# Altium footprint library 8A34002E-000NLG.PcbLib: 3 footprints
Each footprint in its own frame and in the unit in brackets; x right, y up, seen from the top. Pads: shape width x height; smd on the part's side, far side on the other; paste and mask are expansions set on the pad; w line width, h text height; cw(c..) or ccw(c..) is an arc to the next point about the centre after c.
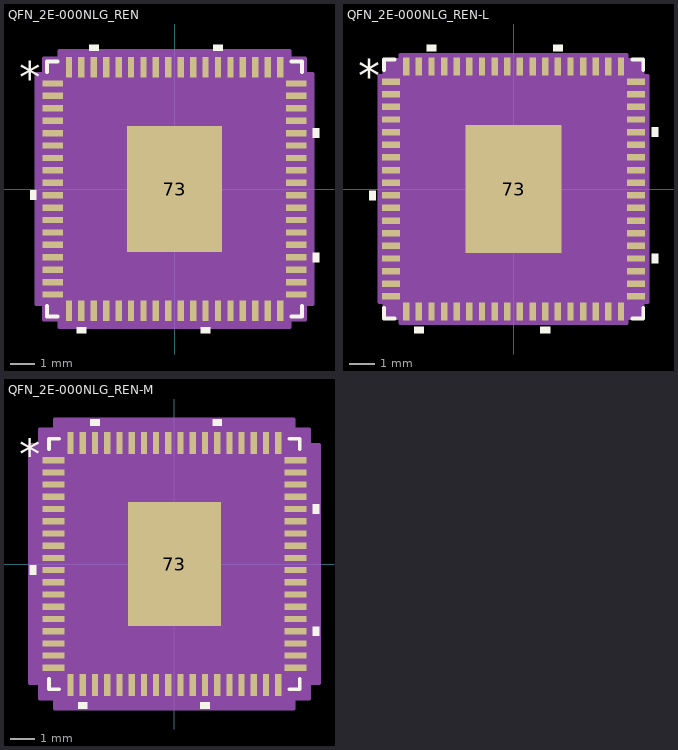
[diagram p0: the footprints below, top view; thin cyan lines are the x and y axes]

## QFN_2E-000NLG_REN [mil]
pads (73):
  rect 32x10 smd paste+0 mask+0: 1(-193,167.37) 2(-193,147.68) 3(-193,127.98) 4(-193,108.3) 5(-193,88.61) 6(-193,68.92) 7(-193,49.23) 8(-193,29.54) 9(-193,9.85) 10(-193,-9.85) 11(-193,-29.54) 12(-193,-49.23) 13(-193,-68.92) 14(-193,-88.61) 15(-193,-108.3) 16(-193,-127.98) 17(-193,-147.68) 18(-193,-167.37) 37(193,-167.37) 38(193,-147.68) 39(193,-127.98) 40(193,-108.3) 41(193,-88.61) 42(193,-68.92) 43(193,-49.23) 44(193,-29.54) 45(193,-9.85) 46(193,9.85) 47(193,29.54) 48(193,49.23) 49(193,68.92) 50(193,88.61) 51(193,108.3) 52(193,127.98) 53(193,147.68) 54(193,167.37)
  rect 10x32 smd paste+0 mask+0: 19(-167.37,-193) 20(-147.68,-193) 21(-127.98,-193) 22(-108.3,-193) 23(-88.61,-193) 24(-68.92,-193) 25(-49.23,-193) 26(-29.54,-193) 27(-9.85,-193) 28(9.85,-193) 29(29.54,-193) 30(49.23,-193) 31(68.92,-193) 32(88.61,-193) 33(108.3,-193) 34(127.98,-193) 35(147.68,-193) 36(167.37,-193) 55(167.37,193) 56(147.68,193) 57(127.98,193) 58(108.3,193) 59(88.61,193) 60(68.92,193) 61(49.23,193) 62(29.54,193) 63(9.85,193) 64(-9.85,193) 65(-29.54,193) 66(-49.23,193) 67(-68.92,193) 68(-88.61,193) 69(-108.3,193) 70(-127.98,193) 71(-147.68,193) 72(-167.37,193)
  rect 150x200 smd paste-99.5 mask+0: 73(0,0)
Top Overlay:
  region: -219,-2.35 -229,-2.35 -229,-17.34 -219,-17.34
  region: -140.18,-219 -155.18,-219 -155.18,-229 -140.18,-229
  region: 56.73,-219 41.73,-219 41.73,-229 56.73,-229
  region: 219,-100.8 229,-100.8 229,-115.8 219,-115.8
  region: 219,96.11 229,96.11 229,81.11 219,81.11
  region: 76.42,219 61.41,219 61.41,229 76.42,229
  region: -120.48,219 -135.49,219 -135.49,229 -120.48,229
  lines w6: -202,-185.47 -202,-202 -185.47,-202 ; -202,185.47 -202,202 -185.47,202 ; 185.47,-202 202,-202 202,-185.47 ; 185.47,202 202,202 202,185.47
  text "*" at -246.5,152.21 h50
Top Paste:
  region: -28.94,96.06 -71.06,96.06 -71.06,53.94 -28.94,53.94
  region: -28.94,46.06 -71.06,46.06 -71.06,3.94 -28.94,3.94
  region: -28.94,-3.94 -71.06,-3.94 -71.06,-46.06 -28.94,-46.06
  region: -28.94,-53.94 -71.06,-53.94 -71.06,-96.06 -28.94,-96.06
  region: 21.06,96.06 -21.06,96.06 -21.06,53.94 21.06,53.94
  region: 21.06,46.06 -21.06,46.06 -21.06,3.94 21.06,3.94
  region: 21.06,-3.94 -21.06,-3.94 -21.06,-46.06 21.06,-46.06
  region: 21.06,-53.94 -21.06,-53.94 -21.06,-96.06 21.06,-96.06
  region: 71.06,96.06 28.94,96.06 28.94,53.94 71.06,53.94
  region: 71.06,46.06 28.94,46.06 28.94,3.94 71.06,3.94
  region: 71.06,-3.94 28.94,-3.94 28.94,-46.06 71.06,-46.06
  region: 71.06,-53.94 28.94,-53.94 28.94,-96.06 71.06,-96.06
Mechanical 13:
  drawing of 297 lines, arcs and shapes, not listed
  text "*" at -189.5,152.21 h50
Mechanical 15:
  region: -182.37,-207 -207,-207 -207,-182.37 -219,-182.37 -219,182.37 -207,182.37 -207,207 -182.37,207 -182.37,219 182.37,219 182.37,207 207,207 207,182.37 219,182.37 219,-182.37 207,-182.37 207,-207 182.37,-207 182.37,-219 -182.37,-219
  lines w6: -219,-182.37 -207,-182.37 -207,-207 -182.37,-207 -182.37,-219 182.37,-219 182.37,-207 207,-207 207,-182.37 219,-182.37 219,182.37 207,182.37 207,207 182.37,207 182.37,219 -182.37,219 -182.37,207 -207,207 -207,182.37 -219,182.37 -219,-182.37
3D body "QFN_2E-000NLG_REN.step": height 39.09, standoff 0, extent -197.01,-197.01 197.01,197.01

## QFN_2E-000NLG_REN-L [mil]
pads (73):
  rect 28x10 smd paste+0 mask+0: 1(-191,167.37) 2(-191,147.68) 3(-191,127.98) 4(-191,108.3) 5(-191,88.61) 6(-191,68.92) 7(-191,49.23) 8(-191,29.54) 9(-191,9.85) 10(-191,-9.85) 11(-191,-29.54) 12(-191,-49.23) 13(-191,-68.92) 14(-191,-88.61) 15(-191,-108.3) 16(-191,-127.98) 17(-191,-147.68) 18(-191,-167.37) 37(191,-167.37) 38(191,-147.68) 39(191,-127.98) 40(191,-108.3) 41(191,-88.61) 42(191,-68.92) 43(191,-49.23) 44(191,-29.54) 45(191,-9.85) 46(191,9.85) 47(191,29.54) 48(191,49.23) 49(191,68.92) 50(191,88.61) 51(191,108.3) 52(191,127.98) 53(191,147.68) 54(191,167.37)
  rect 10x28 smd paste+0 mask+0: 19(-167.37,-191) 20(-147.68,-191) 21(-127.98,-191) 22(-108.3,-191) 23(-88.61,-191) 24(-68.92,-191) 25(-49.23,-191) 26(-29.54,-191) 27(-9.85,-191) 28(9.85,-191) 29(29.54,-191) 30(49.23,-191) 31(68.92,-191) 32(88.61,-191) 33(108.3,-191) 34(127.98,-191) 35(147.68,-191) 36(167.37,-191) 55(167.37,191) 56(147.68,191) 57(127.98,191) 58(108.3,191) 59(88.61,191) 60(68.92,191) 61(49.23,191) 62(29.54,191) 63(9.85,191) 64(-9.85,191) 65(-29.54,191) 66(-49.23,191) 67(-68.92,191) 68(-88.61,191) 69(-108.3,191) 70(-127.98,191) 71(-147.68,191) 72(-167.37,191)
  rect 150x200 smd paste-99.5 mask+0: 73(0,0)
Top Overlay:
  region: -215,-2.35 -225,-2.35 -225,-17.34 -215,-17.34
  region: -140.18,-215 -155.18,-215 -155.18,-225 -140.18,-225
  region: 56.73,-215 41.73,-215 41.73,-225 56.73,-225
  region: 215,-100.8 225,-100.8 225,-115.8 215,-115.8
  region: 215,96.11 225,96.11 225,81.11 215,81.11
  region: 76.42,215 61.41,215 61.41,225 76.42,225
  region: -120.48,215 -135.49,215 -135.49,225 -120.48,225
  lines w6: -202,-185.47 -202,-202 -185.47,-202 ; -202,185.47 -202,202 -185.47,202 ; 185.47,-202 202,-202 202,-185.47 ; 185.47,202 202,202 202,185.47
  text "*" at -242.5,152.21 h50
Top Paste:
  region: -28.94,96.06 -71.06,96.06 -71.06,53.94 -28.94,53.94
  region: -28.94,46.06 -71.06,46.06 -71.06,3.94 -28.94,3.94
  region: -28.94,-3.94 -71.06,-3.94 -71.06,-46.06 -28.94,-46.06
  region: -28.94,-53.94 -71.06,-53.94 -71.06,-96.06 -28.94,-96.06
  region: 21.06,96.06 -21.06,96.06 -21.06,53.94 21.06,53.94
  region: 21.06,46.06 -21.06,46.06 -21.06,3.94 21.06,3.94
  region: 21.06,-3.94 -21.06,-3.94 -21.06,-46.06 21.06,-46.06
  region: 21.06,-53.94 -21.06,-53.94 -21.06,-96.06 21.06,-96.06
  region: 71.06,96.06 28.94,96.06 28.94,53.94 71.06,53.94
  region: 71.06,46.06 28.94,46.06 28.94,3.94 71.06,3.94
  region: 71.06,-3.94 28.94,-3.94 28.94,-46.06 71.06,-46.06
  region: 71.06,-53.94 28.94,-53.94 28.94,-96.06 71.06,-96.06
Mechanical 13:
  drawing of 297 lines, arcs and shapes, not listed
  text "*" at -189.5,152.21 h50
Mechanical 15:
  region: -176.37,-201 -201,-201 -201,-176.37 -209,-176.37 -209,176.37 -201,176.37 -201,201 -176.37,201 -176.37,209 176.37,209 176.37,201 201,201 201,176.37 209,176.37 209,-176.37 201,-176.37 201,-201 176.37,-201 176.37,-209 -176.37,-209
  lines w6: -209,-176.37 -201,-176.37 -201,-201 -176.37,-201 -176.37,-209 176.37,-209 176.37,-201 201,-201 201,-176.37 209,-176.37 209,176.37 201,176.37 201,201 176.37,201 176.37,209 -176.37,209 -176.37,201 -201,201 -201,176.37 -209,176.37 -209,-176.37
3D body "QFN_2E-000NLG_REN.step": height 39.09, standoff 0, extent -197.01,-197.01 197.01,197.01

## QFN_2E-000NLG_REN-M [mil]
pads (73):
  rect 36x10 smd paste+0 mask+0: 1(-195,167.37) 2(-195,147.68) 3(-195,127.98) 4(-195,108.3) 5(-195,88.61) 6(-195,68.92) 7(-195,49.23) 8(-195,29.54) 9(-195,9.85) 10(-195,-9.85) 11(-195,-29.54) 12(-195,-49.23) 13(-195,-68.92) 14(-195,-88.61) 15(-195,-108.3) 16(-195,-127.98) 17(-195,-147.68) 18(-195,-167.37) 37(195,-167.37) 38(195,-147.68) 39(195,-127.98) 40(195,-108.3) 41(195,-88.61) 42(195,-68.92) 43(195,-49.23) 44(195,-29.54) 45(195,-9.85) 46(195,9.85) 47(195,29.54) 48(195,49.23) 49(195,68.92) 50(195,88.61) 51(195,108.3) 52(195,127.98) 53(195,147.68) 54(195,167.37)
  rect 10x36 smd paste+0 mask+0: 19(-167.37,-195) 20(-147.68,-195) 21(-127.98,-195) 22(-108.3,-195) 23(-88.61,-195) 24(-68.92,-195) 25(-49.23,-195) 26(-29.54,-195) 27(-9.85,-195) 28(9.85,-195) 29(29.54,-195) 30(49.23,-195) 31(68.92,-195) 32(88.61,-195) 33(108.3,-195) 34(127.98,-195) 35(147.68,-195) 36(167.37,-195) 55(167.37,195) 56(147.68,195) 57(127.98,195) 58(108.3,195) 59(88.61,195) 60(68.92,195) 61(49.23,195) 62(29.54,195) 63(9.85,195) 64(-9.85,195) 65(-29.54,195) 66(-49.23,195) 67(-68.92,195) 68(-88.61,195) 69(-108.3,195) 70(-127.98,195) 71(-147.68,195) 72(-167.37,195)
  rect 150x200 smd paste-99.5 mask+0: 73(0,0)
Top Overlay:
  region: -223,-2.35 -233,-2.35 -233,-17.34 -223,-17.34
  region: -140.18,-223 -155.18,-223 -155.18,-233 -140.18,-233
  region: 56.73,-223 41.73,-223 41.73,-233 56.73,-233
  region: 223,-100.8 233,-100.8 233,-115.8 223,-115.8
  region: 223,96.11 233,96.11 233,81.11 223,81.11
  region: 76.42,223 61.41,223 61.41,233 76.42,233
  region: -120.48,223 -135.49,223 -135.49,233 -120.48,233
  lines w6: -202,-185.47 -202,-202 -185.47,-202 ; -202,185.47 -202,202 -185.47,202 ; 185.47,-202 202,-202 202,-185.47 ; 185.47,202 202,202 202,185.47
  text "*" at -250.5,152.21 h50
Top Paste:
  region: -28.94,96.06 -71.06,96.06 -71.06,53.94 -28.94,53.94
  region: -28.94,46.06 -71.06,46.06 -71.06,3.94 -28.94,3.94
  region: -28.94,-3.94 -71.06,-3.94 -71.06,-46.06 -28.94,-46.06
  region: -28.94,-53.94 -71.06,-53.94 -71.06,-96.06 -28.94,-96.06
  region: 21.06,96.06 -21.06,96.06 -21.06,53.94 21.06,53.94
  region: 21.06,46.06 -21.06,46.06 -21.06,3.94 21.06,3.94
  region: 21.06,-3.94 -21.06,-3.94 -21.06,-46.06 21.06,-46.06
  region: 21.06,-53.94 -21.06,-53.94 -21.06,-96.06 21.06,-96.06
  region: 71.06,96.06 28.94,96.06 28.94,53.94 71.06,53.94
  region: 71.06,46.06 28.94,46.06 28.94,3.94 71.06,3.94
  region: 71.06,-3.94 28.94,-3.94 28.94,-46.06 71.06,-46.06
  region: 71.06,-53.94 28.94,-53.94 28.94,-96.06 71.06,-96.06
Mechanical 13:
  drawing of 297 lines, arcs and shapes, not listed
  text "*" at -189.5,152.21 h50
Mechanical 15:
  region: -192.37,-217 -217,-217 -217,-192.37 -233,-192.37 -233,192.37 -217,192.37 -217,217 -192.37,217 -192.37,233 192.37,233 192.37,217 217,217 217,192.37 233,192.37 233,-192.37 217,-192.37 217,-217 192.37,-217 192.37,-233 -192.37,-233
  lines w6: -233,-192.37 -217,-192.37 -217,-217 -192.37,-217 -192.37,-233 192.37,-233 192.37,-217 217,-217 217,-192.37 233,-192.37 233,192.37 217,192.37 217,217 192.37,217 192.37,233 -192.37,233 -192.37,217 -217,217 -217,192.37 -233,192.37 -233,-192.37
3D body "QFN_2E-000NLG_REN.step": height 39.09, standoff 0, extent -197.01,-197.01 197.01,197.01